# Altium schematic symbol library PCB_Project.SCHLIB: 25 symbols
Pins are listed as number, name and electrical type; pins without a type are passive.

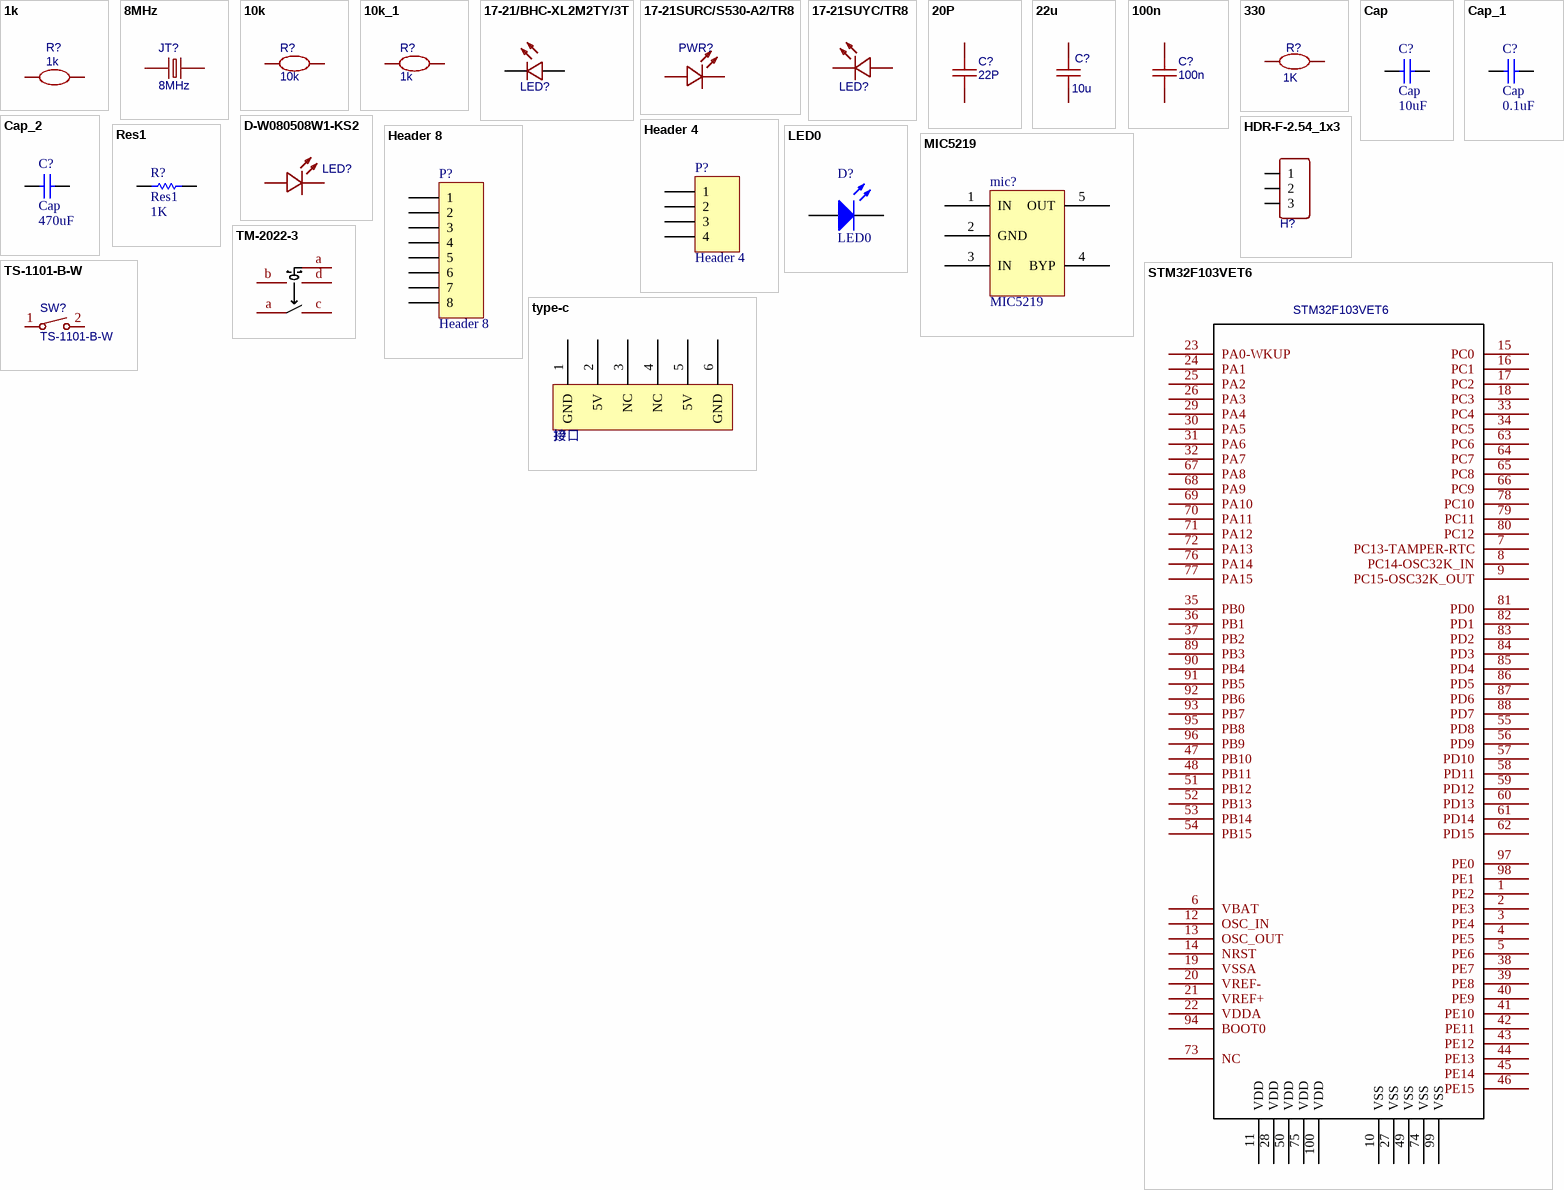
[diagram p0: symbols 1k to type-c]

## 1k
designator R?
nameAlias: Value(Ω); spicePre: R; spiceSymbolName: Res_0805(1/8W)_EU
footprint 0805
footprint 0603
footprint 0603
pins: 1, 2

## 8MHz
designator JT?
BOM_Manufacturer: TAITIEN Elec; BOM_Manufacturer Part: XIHCELNANF-48MHZ; nameAlias: Frequency; Contributor: LCSC; BOM_Supplier: LCSC; BOM_Supplier Part: C295085; spicePre: X; spiceSymbolName: XIHCELNANF-48MHZ
footprint HC-49US_L11.5-W4.5-P4.88
footprint OSC-SMD_L5.0-W3.2
pins: 1, 2

## 10k
designator R?
nameAlias: Value(Ω); spicePre: R; spiceSymbolName: Res_0805(1/8W)_EU
footprint 0805
footprint 0603
pins: 1, 2

## 10k_1
designator R?, comment 1k
nameAlias: Value(Ω); spicePre: R; spiceSymbolName: Res_0805(1/8W)_EU
footprint 0805
footprint 0603
pins: 1, 2

## 17-21/BHC-XL2M2TY/3T
designator LED?  (value not drawn)
BOM_Manufacturer: EVERLIGHT; SMT Type: Extend; BOM_Supplier: LCSC; BOM_Manufacturer Part: 17-21/BHC-XL2M2TY/3T; image: //image.lceda.cn/szlcsc/C72035.jpg; BOM_Supplier Part: C72035; BOM_LCSC Assembly: Yes; spicePre: L; spiceSymbolName: 17-21/BHC-XL2M2TY/3T
footprint LED0805-RD
footprint led
pins: 1 -, 2 +

## 17-21SURC/S530-A2/TR8
designator PWR?  (value not drawn)
BOM_Manufacturer: EVERLIGHT; Contributor: LCSC; BOM_Supplier: LCSC; BOM_Manufacturer Part: 17-21SURC/S530-A2/TR8; BOM_Supplier Part: C131244; spicePre: L; spiceSymbolName: 17-21SURC/S530-A2/TR8
footprint LED-0805
footprint led
pins: 1 A, 2 K

## 17-21SUYC/TR8
designator LED?  (value not drawn)
BOM_Manufacturer: KENTO; SMT Type: Basic; BOM_Supplier: LCSC; BOM_Manufacturer Part: 17-21SUYC/TR8; BOM_LCSC Assembly: Yes; image: //image.lceda.cn/szlcsc/C2296.jpg; BOM_Supplier Part: C2296; spicePre: L; spiceSymbolName: 17-21SUYC/TR8
footprint LED0805-RD
footprint led
pins: 1 -, 2 +

## 20P
designator C?, comment 22P
nameAlias: Value(F); spicePre: C; spiceSymbolName: Cap_0805_US
footprint 0805
footprint 0603
pins: 1, 2

## 22u
designator C?, comment 10u
nameAlias: Value(F); spicePre: C; spiceSymbolName: Cap_0805_US
footprint 0805
footprint 0603
footprint 0603
pins: 1, 2

## 100n
designator C?
nameAlias: Value(F); spicePre: C; spiceSymbolName: Cap_0805_US
footprint 0805
footprint 0603
pins: 1, 2

## 330
designator R?, comment 1K
nameAlias: Value(Ω); spicePre: R; spiceSymbolName: Res_0805(1/8W)_EU
footprint 0805
footprint 0603
pins: 1, 2

## Cap
designator C?  value 10uF
Capacitor; Published: 8-Jun-2000; LatestRevisionDate: 17-Jul-2002; LatestRevisionNote: Re-released for DXP Platform.; PackageReference: RAD-0.3; Publisher: Altium Limited; PackageDescription: Radial Cap, Thru-Hole; 2 Leads; 0.3 in Pin Spacing
footprint 0603
simulation model CAP (Capacitor)
signal-integrity model Cap
pins: 1, 2

## Cap_1
designator C?, comment Cap  value 0.1uF
Capacitor; Published: 8-Jun-2000; LatestRevisionDate: 17-Jul-2002; LatestRevisionNote: Re-released for DXP Platform.; PackageReference: RAD-0.3; Publisher: Altium Limited; PackageDescription: Radial Cap, Thru-Hole; 2 Leads; 0.3 in Pin Spacing
footprint 0603
simulation model CAP (Capacitor)
signal-integrity model Cap
pins: 1, 2

## Cap_2
designator C?, comment Cap  value 470uF
Capacitor; Published: 8-Jun-2000; LatestRevisionDate: 17-Jul-2002; LatestRevisionNote: Re-released for DXP Platform.; PackageReference: RAD-0.3; Publisher: Altium Limited; PackageDescription: Radial Cap, Thru-Hole; 2 Leads; 0.3 in Pin Spacing
footprint 0603
simulation model CAP (Capacitor)
signal-integrity model Cap
pins: 1, 2

## D-W080508W1-KS2
designator LED?  (value not drawn)
BOM_Manufacturer: ARKLED; Contributor: LCSC; BOM_Supplier: LCSC; BOM_Manufacturer Part: D-W080508W1-KS2; BOM_Supplier Part: C130115; spicePre: L; spiceSymbolName: D-W080508W1-KS2
footprint LED-0805
footprint led
pins: 1 A, 2 K

## HDR-F-2.54_1x3
designator H?  (value not drawn)
Contributor: LCEDA_Lib; BOM_Supplier Part: C146690; BOM_Supplier: LCSC; spicePre: H; spiceSymbolName: HDR-F-2.54_1x3
footprint 0.96引脚
footprint MHDR1X3 (Connector; Header; 3 Position)
pins: 1, 2, 3

## Header 4
designator P?
Header, 4-Pin; LatestRevisionDate: 17-Jul-2002; LatestRevisionNote: Re-released for DXP Platform.; Publisher: Altium Limited
footprint HDR1X4 (Connector; Header; 4 Position)
signal-integrity model Connector
pins: 1, 2, 3, 4

## Header 8
designator P?
Header, 8-Pin; LatestRevisionDate: 17-Jul-2002; LatestRevisionNote: Re-released for DXP Platform.; Publisher: Altium Limited
footprint HDR1X8 (Connector; Header; 8 Position)
signal-integrity model Connector
pins: 1, 2, 3, 4, 5, 6, 7, 8

## LED0
designator D?
Typical INFRARED GaAs LED; Published: 8-Jun-2000; LatestRevisionDate: 08-Jul-2005; LatestRevisionNote: Mech Layer 1 removed.; PackageReference: LED-0; Publisher: Altium Limited; PackageDescription: LED; 2 Leads
footprint LED-0 (LED; 2 Leads)
simulation model LED0 (Diode)
footprint led
footprint led
pins: 1 A, 2 K

## MIC5219
designator mic?
footprint mic5219
pins: 1 IN, 2 GND, 3 IN, 4 BYP, 5 OUT

## Res1
designator R?  value 1K
Resistor; Published: 8-Jun-2000; LatestRevisionDate: 17-Jul-2002; LatestRevisionNote: Re-released for DXP Platform.; PackageReference: AXIAL-0.3; Publisher: Altium Limited; PackageDescription: Axial Device, Thru-Hole; 2 Leads; 0.3 in Pin Spacing
footprint 0603
simulation model RESISTOR (Resistor)
signal-integrity model Res
pins: 1, 2

## STM32F103VET6
designator U?
BOM_Manufacturer: STMicroelectronics; SMT Type: Basic; BOM_Supplier: LCSC; BOM_Manufacturer Part: STM32F103VET6; BOM_LCSC Assembly: Yes; image: //image.lceda.cn/szlcsc/C8308.jpg; BOM_Supplier Part: C8308; spicePre: U; spiceSymbolName: STM32F103VET6
footprint LQFP-100_L14.0-W14.0-P0.50-LS16.0-BL
footprint LQFP-100_L14.0-W14.0-P0.50-LS16.0-BL
pins: 1 PE2, 2 PE3, 3 PE4, 4 PE5, 5 PE6, 6 VBAT, 7 PC13-TAMPER-RTC, 8 PC14-OSC32K_IN, 9 PC15-OSC32K_OUT, 10 VSS, 11 VDD, 12 OSC_IN, 13 OSC_OUT, 14 NRST, 15 PC0, 16 PC1, 17 PC2, 18 PC3, 19 VSSA, 20 VREF-, 21 VREF+, 22 VDDA, 23 PA0-WKUP, 24 PA1, 25 PA2, 26 PA3, 27 VSS, 28 VDD, 29 PA4, 30 PA5, 31 PA6, 32 PA7, 33 PC4, 34 PC5, 35 PB0, 36 PB1, 37 PB2, 38 PE7, 39 PE8, 40 PE9, 41 PE10, 42 PE11, 43 PE12, 44 PE13, 45 PE14, 46 PE15, 47 PB10, 48 PB11, 49 VSS, 50 VDD, 51 PB12, 52 PB13, 53 PB14, 54 PB15, 55 PD8, 56 PD9, 57 PD10, 58 PD11, 59 PD12, 60 PD13, 61 PD14, 62 PD15, 63 PC6, 64 PC7, 65 PC8, 66 PC9, 67 PA8, 68 PA9, 69 PA10, 70 PA11, 71 PA12, 72 PA13, 73 NC, 74 VSS, 75 VDD, 76 PA14, 77 PA15, 78 PC10, 79 PC11, 80 PC12, 81 PD0, 82 PD1, 83 PD2, 84 PD3, 85 PD4, 86 PD5, 87 PD6, 88 PD7, 89 PB3, 90 PB4, 91 PB5, 92 PB6, 93 PB7, 94 BOOT0, 95 PB8, 96 PB9, 97 PE0, 98 PE1, 99 VSS, 100 VDD

## TM-2022-3
designator SW?  (value not drawn)
Manufacturer: XKB Connectivity(中国星坤); Add into BOM: yes; Name: TM-2022-3; Symbol: TM-2022-3; Device: TM-2022-3; LCSC Part Name: 数码相机拨轮开关  3挡拨轮开关; Supplier Part: C318952; Manufacturer Part: TM-2022-3; Supplier Footprint: SMD; JLCPCB Part Class: Extended Part; Datasheet: https://atta.szlcsc.com/upload/public/pdf/source/20211015/3476D939D9FB2BD124C91E3A6F460D4F.pdf; Supplier: LCSC; Convert to PCB: yes
footprint SW-SMD_TM-2022-3
3D model SW-SMD_TM-2022-3
footprint 旋钮
pins: a, a, b, c, d

## TS-1101-B-W
designator SW?
BOM_Manufacturer: XKB Enterprise; Contributor: LCSC; BOM_Supplier: LCSC; BOM_Supplier Part: C500065; BOM_Manufacturer Part: TS-1101-B-W; BOM_JLCPCB Part Class: Extended Part; spicePre: S; spiceSymbolName: TS-1101-B-W
footprint KEY-SMD_2P-L6.0-W3.6-P7.4-LS8.0-L
footprint SW-SMD_ST-1186BE
footprint SW-SMD_ST-1186BE
pins: 1, 2

## type-c
designator 1?, comment 接口
TYPE_C
footprint typr-c
footprint typr-c
pins: 1 GND, 2 5V, 3 NC, 4 NC, 5 5V, 6 GND